# Altium footprint library Misc.PcbLib: 150 footprints (part 5 of 10)
Each footprint in its own frame and in the unit in brackets; x right, y up, seen from the top. Pads: shape width x height; smd on the part's side, far side on the other; paste and mask are expansions set on the pad; w line width, h text height; cw(c..) or ccw(c..) is an arc to the next point about the centre after c.
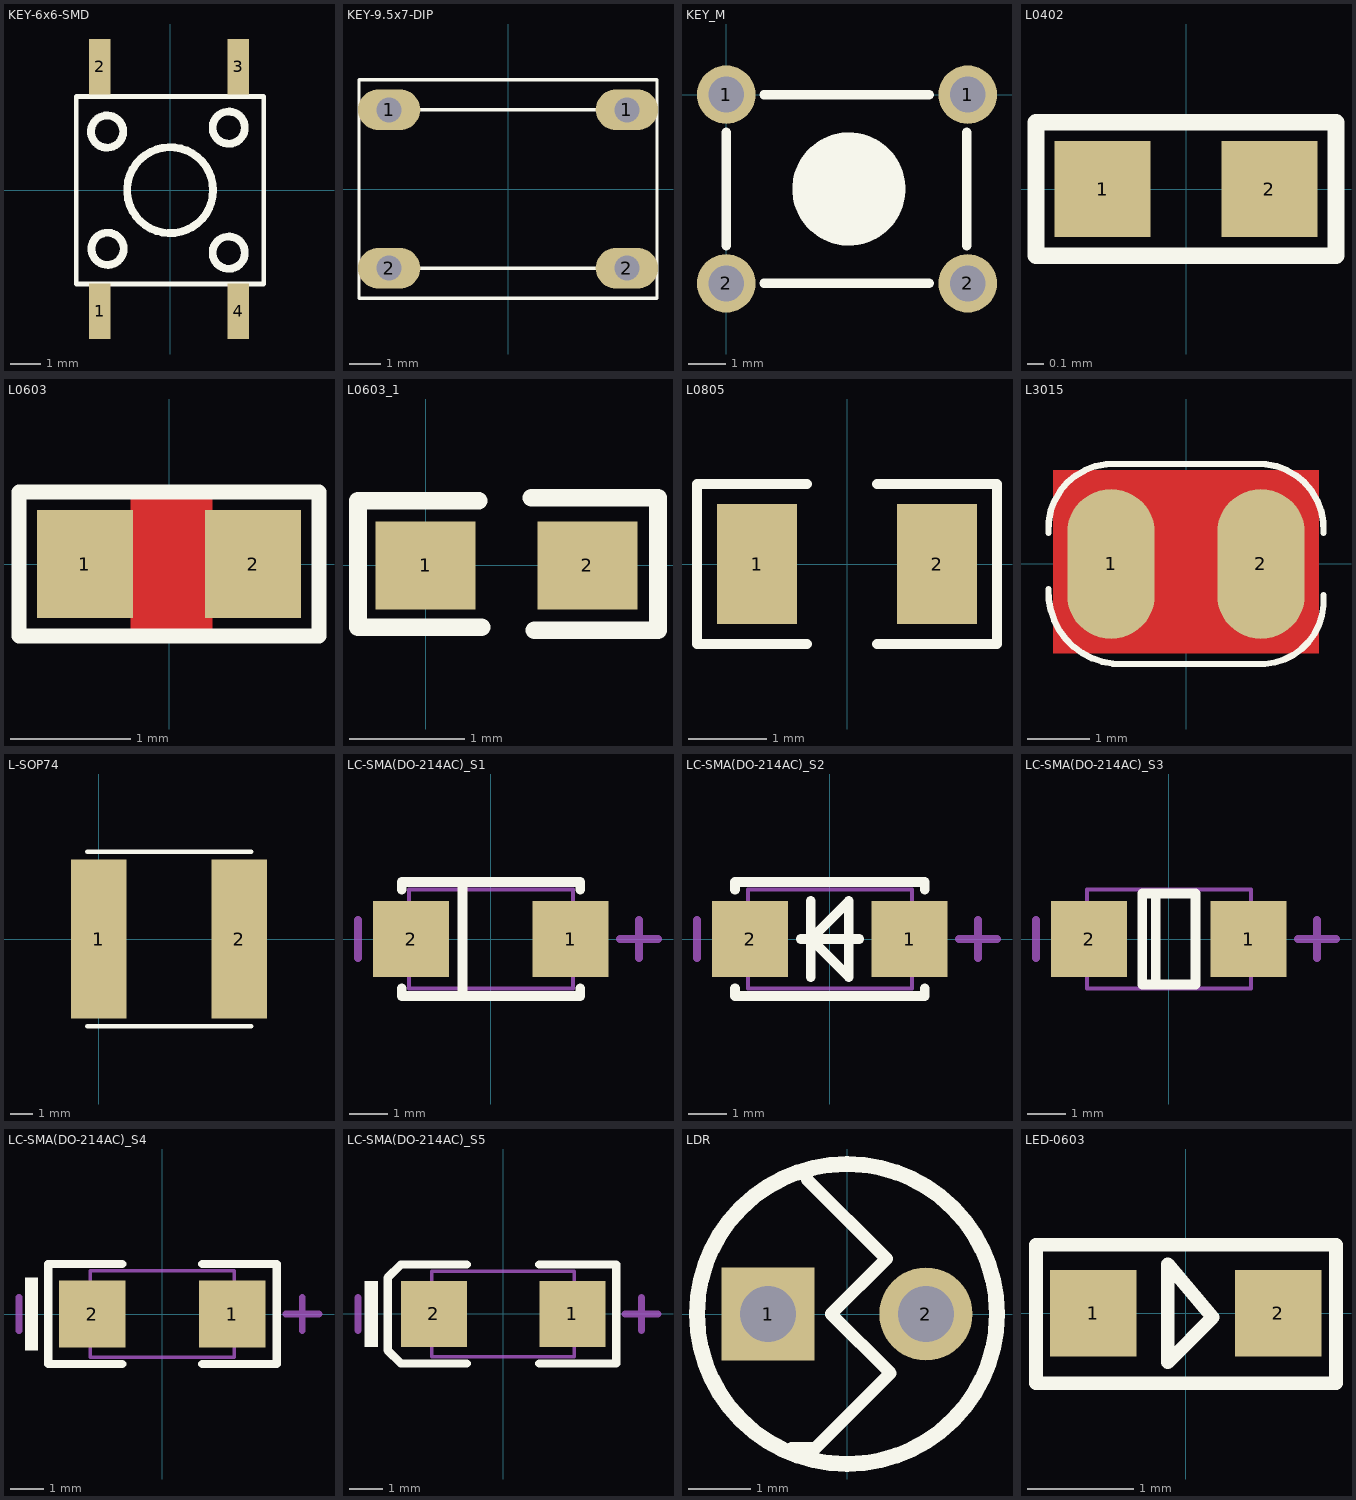
[diagram p4: the footprints below, top view; thin cyan lines are the x and y axes]

## KEY-6x6-SMD [mm] "KEY 5.2*5.2mm"
height 1.3
pads (4):
  rect 0.7x1.8 smd: 1(-2.286,-3.937) 2(-2.286,4.014) 3(2.214,4.014) 4(2.214,-3.937)
Top Overlay:
  circle w0.254: c-2.032,-1.905 r0.524
  circle w0.254: c1.905,-2.032 r0.524
  circle w0.254: c1.905,2.032 r0.524
  circle w0.254: c-2.048,1.905 r0.524
  circle w0.254: c0,0 r1.397
  lines w0.152: -3.048,-3.048 -3.048,3.048 3.048,3.048 3.048,-3.048 -3.048,-3.048

## KEY-9.5x7-DIP [mm]
pads (4):
  oval 2x1.3 hole 0.8: 1(-3.81,2.54) 1(3.81,2.54) 2(-3.81,-2.54) 2(3.81,-2.54)
Top Overlay:
  lines w0.1: -3.048,-2.54 3.048,-2.54 ; -3.048,2.54 3.048,2.54 ; -4.772,-3.502 -4.772,3.502 4.772,3.502 4.772,-3.502 -4.772,-3.502

## KEY_M [mil]
pads (4):
  round 62 hole 38: 1(0,0) 1(255.91,0) 2(0,-200) 2(255.91,-200)
Top Overlay:
  circle w60: c130,-100 r30
  lines w10: -0.03,-160 -0.03,-40 ; 39.97,-200 215,-200 ; 39.97,0 215,0 ; 255,-160 255,-40

## L0402 [mm]
pads (2):
  rect 0.575x0.575 smd: 1(-0.5,0) 2(0.5,0)
Top Overlay:
  lines w0.1: -0.9,-0.4 0.9,-0.4 0.9,0.4 -0.9,0.4 -0.9,-0.4

## L0603 [mil]
pads (2):
  rect 31.5x35.4 smd: 1(-27.56,0) 2(27.56,0)
Top Layer:
  pour cut-out: -12.6,22.44 14.17,22.44 14.17,-23.23 -12.6,-23.23
Top Overlay:
  lines w5: -49.21,-23.62 -49.21,23.62 49.21,23.62 49.21,-23.62 -49.21,-23.62

## L0603_1 [mil] "0603 LONG"
height 200
pads (2):
  rect 33.94x30 smd: 1(0,0) 2(55,0)
Top Overlay:
  lines w6: 18,22 -23,22 -23,-21 19,-21 ; 36,23 79,23 79,-22 37,-22

## L0805 [mil]
pads (2):
  rect 40x60 smd: 1(-45,0) 2(45,0)
Top Overlay:
  lines w5: -20,-40 -75,-40 -75,40 -20,40 ; 15,-40 75,-40 75,40 15,40

## L3015 [mm]
pads (2):
  oval 1.4x2.4 smd: 1(-1.2,0.001) 2(1.2,0.001)
Top Layer:
  pour cut-out: -2.125,1.5 2.125,1.5 2.125,-1.425 -2.125,-1.425
Top Overlay:
  lines w0.102: -2.201,-0.399 ccw(c-1.051,-0.449) -1.001,-1.599 1.099,-1.599 ccw(c1.189,-0.589) 2.199,-0.499 ; -2.201,0.501 cw(c-1.171,0.571) -1.101,1.601 1.099,1.601 cw(c1.17,0.571) 2.199,0.501

## L-SOP74 [mm]
pads (2):
  rect 2.5x7.2 smd: 1(0,0) 2(6.35,0)
Top Overlay:
  lines w0.203: -0.508,-3.937 6.892,-3.937 ; -0.508,3.937 6.892,3.937

## LC-SMA(DO-214AC)_S1 [mm]
pads (2):
  rect 2x2 smd: 1(2.1,0) 2(-2.1,0)
Top Overlay:
  lines w0.254: -2.35,-1.3 -2.35,-1.5 2.35,-1.5 2.35,-1.3 ; -2.35,1.3 -2.35,1.5 2.35,1.5 2.35,1.3 ; -0.75,-1.5 -0.75,1.5
Mechanical 13:
  lines w0.1: -2.16,-1.3 -2.16,1.3 2.16,1.3 2.16,-1.3 -2.16,-1.3
Mechanical 15:
  lines w0.203: -3.5,-0.5 -3.5,0.5 ; 3.4,0 4.4,0 ; 3.9,-0.5 3.9,0.5

## LC-SMA(DO-214AC)_S2 [mm]
pads (2):
  rect 2x2 smd: 1(2.1,0) 2(-2.1,0)
Top Overlay:
  lines w0.254: -2.5,-1.3 -2.5,-1.5 2.5,-1.5 2.5,-1.3 ; -2.5,1.3 -2.5,1.5 2.5,1.5 2.5,1.3 ; -0.77,0 0.77,0 ; -0.5,-1 -0.5,1 ; -0.5,0 0.5,-1 0.5,1 -0.5,0
Mechanical 13:
  lines w0.1: -2.16,-1.3 2.16,-1.3 2.16,1.3 -2.16,1.3 -2.16,-1.3
Mechanical 15:
  lines w0.203: -3.5,-0.5 -3.5,0.5 ; 3.4,0 4.4,0 ; 3.9,-0.5 3.9,0.5

## LC-SMA(DO-214AC)_S3 [mm]
pads (2):
  rect 2x2 smd: 1(2.1,0) 2(-2.1,0)
Top Overlay:
  lines w0.254: -0.35,-1.2 -0.35,1.2 ; -0.7,-1.2 0.7,-1.2 0.7,1.2 -0.7,1.2 -0.7,-1.2
Mechanical 13:
  lines w0.1: -2.16,-1.3 2.16,-1.3 2.16,1.3 -2.16,1.3 -2.16,-1.3
Mechanical 15:
  lines w0.203: -3.5,-0.5 -3.5,0.5 ; 3.4,0 4.4,0 ; 3.9,-0.5 3.9,0.5

## LC-SMA(DO-214AC)_S4 [mm]
pads (2):
  rect 2x2 smd: 1(2.1,0) 2(-2.1,0)
Top Overlay:
  rectangle: -4.125,-1.1 -3.725,1.1
  lines w0.254: -3.43,1.5 -1.2,1.5 ; -3.429,1.5 -3.429,-1.5 -1.199,-1.5 ; 1.201,-1.5 3.431,-1.5 3.431,1.5 1.201,1.5
Mechanical 13:
  lines w0.1: -2.16,-1.3 -2.16,1.3 2.16,1.3 2.16,-1.3 -2.16,-1.3
Mechanical 15:
  lines w0.203: -4.3,-0.5 -4.3,0.5 ; 3.7,0 4.7,0 ; 4.2,-0.5 4.2,0.5

## LC-SMA(DO-214AC)_S5 [mm]
pads (2):
  rect 2x2 smd: 1(2.1,0) 2(-2.1,0)
Top Overlay:
  rectangle: -4.2,-1 -3.8,1
  lines w0.254: -1.1,-1.5 -3.1,-1.5 -3.5,-1.1 -3.5,1.1 -3.1,1.5 -1.1,1.5 ; 1.1,-1.5 3.431,-1.5 3.431,1.5 1.1,1.5
Mechanical 13:
  lines w0.1: -2.16,-1.3 -2.16,1.3 2.16,1.3 2.16,-1.3 -2.16,-1.3
Mechanical 15:
  lines w0.203: -4.4,-0.5 -4.4,0.5 ; 3.7,0 4.7,0 ; 4.2,-0.5 4.2,0.5

## LDR [mm]
pads (2):
  rect 1.5x1.5 hole 0.9: 1(-1.27,0)
  round 1.5 hole 0.9: 2(1.27,0)
Top Overlay:
  circle w0.254: c0,0 r2.413
  lines w0.203: -0.889,-2.159 -0.508,-2.159 0.699,-0.953 -0.254,0 0.635,0.889 -0.635,2.159

## LED-0603 [mil]
pads (2):
  rect 32x32 smd: 1(-34.2,0.06) 2(34.2,-0.06)
Top Overlay:
  lines w5: -55.38,-25.89 55.62,-25.89 55.62,25.3 -55.38,25.3 -55.38,-25.89 ; -6.67,-18.21 9.96,-1.57 -6.67,18.14 -6.67,-18.21
3D body: height 23.62, standoff 0, extent -31.89,-14.02 31.89,17.48